# Altium footprint library ESP32.PcbLib: 1 footprints
Each footprint in its own frame and in the unit in brackets; x right, y up, seen from the top. Pads: shape width x height; smd on the part's side, far side on the other; paste and mask are expansions set on the pad; w line width, h text height; cw(c..) or ccw(c..) is an arc to the next point about the centre after c.
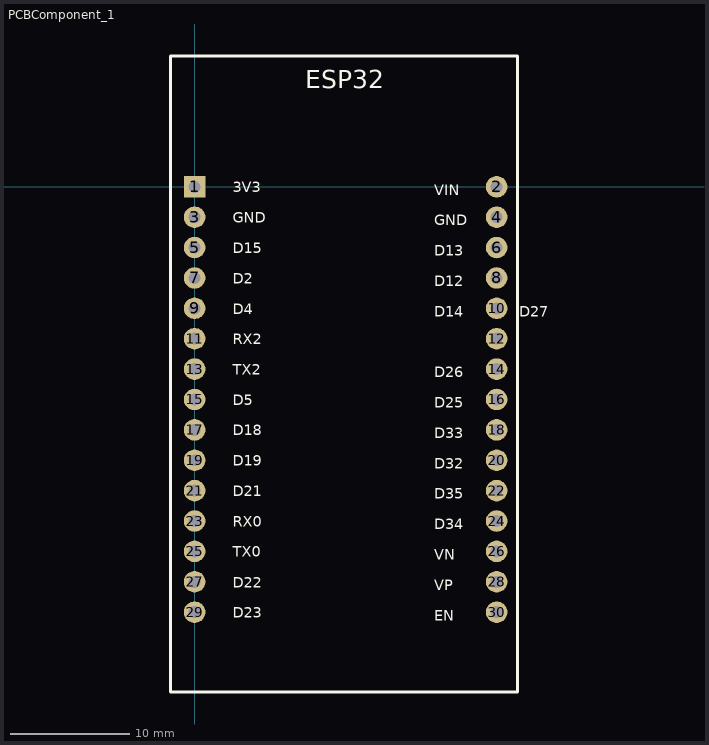
[diagram p0: the footprint, top view; thin cyan lines are the x and y axes]

## PCBComponent_1 [mm]
pads (30):
  rect 1.8x1.8 hole 1: 1(0,0)
  round 1.8 hole 1: 2(25.25,0) 3(0,-2.54) 4(25.25,-2.54) 5(0,-5.08) 6(25.25,-5.08) 7(0,-7.62) 8(25.25,-7.62) 9(0,-10.16) 10(25.25,-10.16) 11(0,-12.7) 12(25.25,-12.7) 13(0,-15.24) 14(25.25,-15.24) 15(0,-17.78) 16(25.25,-17.78) 17(0,-20.32) 18(25.25,-20.32) 19(0,-22.86) 20(25.25,-22.86) 21(0,-25.4) 22(25.25,-25.4) 23(0,-27.94) 24(25.25,-27.94) 25(0,-30.48) 26(25.25,-30.48) 27(0,-33.02) 28(25.25,-33.02) 29(0,-35.56) 30(25.25,-35.56)
Top Overlay:
  lines w0.254: -2,-42.25 27,-42.25 27,10.95 -2,10.95 -2,-42.25
  text "ESP32" at 9.254,8.254 h1.52
  text "EN" at 20.03,-36.56 h1.52
  text "VP" at 20.031,-34.02 h1.52
  text "VN" at 20.031,-31.48 h1.52
  text "D34" at 20.03,-28.923 h1.52
  text "D35" at 20.03,-26.383 h1.52
  text "D32" at 20.03,-23.843 h1.52
  text "D33" at 20.03,-21.303 h1.52
  text "D25" at 20.03,-18.763 h1.52
  text "D26" at 20.03,-16.223 h1.52
  text "D27" at 27.127,-11.176 h1.52
  text "D14" at 20.03,-11.16 h1.52
  text "D12" at 20.03,-8.62 h1.52
  text "D13" at 20.03,-6.063 h1.52
  text "GND" at 20.03,-3.523 h1.52
  text "VIN" at 20.031,-1 h1.52
  text "D23" at 3.202,-36.315 h1.52
  text "D22" at 3.202,-33.792 h1.52
  text "TX0" at 3.202,-31.235 h1.52
  text "RX0" at 3.202,-28.695 h1.52
  text "D21" at 3.202,-26.172 h1.52
  text "D19" at 3.202,-23.615 h1.52
  text "D18" at 3.202,-21.075 h1.52
  text "D5" at 3.202,-18.535 h1.52
  text "TX2" at 3.202,-16.012 h1.52
  text "RX2" at 3.202,-13.472 h1.52
  text "D4" at 3.202,-10.932 h1.52
  text "D2" at 3.202,-8.392 h1.52
  text "D15" at 3.202,-5.835 h1.52
  text "GND" at 3.202,-3.295 h1.52
  text "3V3" at 3.202,-0.755 h1.52
3D body "esp32_30pin.step": height -0.08, standoff -13.61, extent -1.779,-41.86 27.221,11.104
3D body "jumper cai 15x2.54.step": height 2.5, standoff -5.5, extent 24,-37.08 26.5,1.52
3D body "jumper cai 15x2.54.step": height 5.25, standoff -2.75, extent -1.25,-37.08 1.25,1.52